# Altium footprint library station_de_charge_PcbLib.PcbLib: 26 footprints (part 1 of 2)
Each footprint in its own frame and in the unit in brackets; x right, y up, seen from the top. Pads: shape width x height; smd on the part's side, far side on the other; paste and mask are expansions set on the pad; w line width, h text height; cw(c..) or ccw(c..) is an arc to the next point about the centre after c.
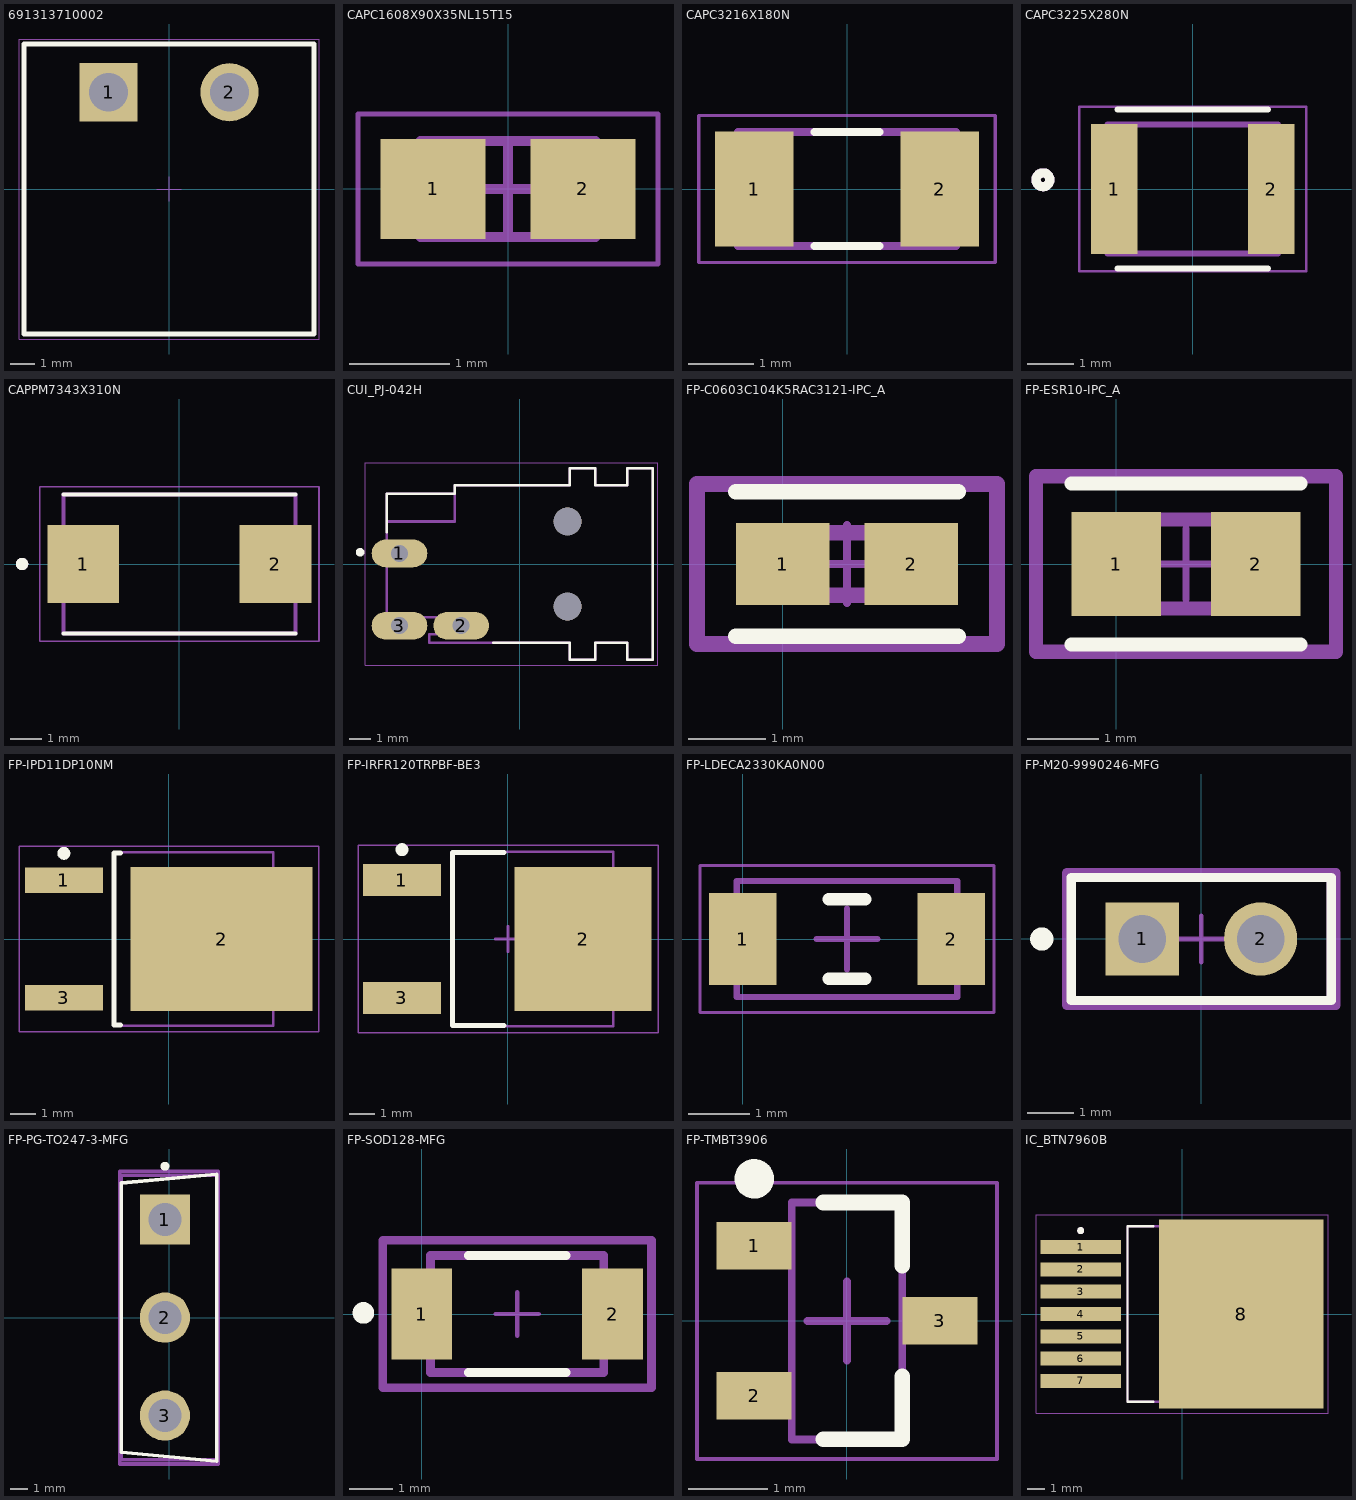
[diagram p0: the footprints below, top view; thin cyan lines are the x and y axes]

## 691313710002 [mm] "5.00mm - Closed Horizhontal PCB Header - -02p"
height 8.5
pads (2):
  rect 2.4x2.4 hole 1.6: 1(-2.5,4)
  round 2.4 hole 1.6: 2(2.5,4)
Top Overlay:
  lines w0.2: -6,-6 -6,6 6,6 6,-6 -6,-6
Mechanical 13:
  lines w0.1: -6,-6 6,-6 6,6 -6,6 -6,-6
Mechanical 15:
  lines w0.05: -0.5,0 0.5,0 ; 0,-0.5 0,0.5 ; -6.2,-6.2 6.2,-6.2 6.2,6.2 -6.2,6.2 -6.2,-6.2
3D body "691313710002.stp": height 8.55, standoff -3.45, extent -6,-6 6,6

## CAPC1608X90X35NL15T15 [mm] "Chip Capacitor, 2-Leads, Body 1.60x0.81mm, IPC Medium Density"
height 0.9
pads (2):
  rect 1.05x1 smd: 1(-0.75,0) 2(0.75,0)
Mechanical 13:
  lines w0.1: -0.875,-0.48 0.875,-0.48 0.875,0.48 -0.875,0.48 -0.875,-0.48
Mechanical 15:
  lines w0.05: -1.5,-0.75 1.5,-0.75 1.5,0.75 -1.5,0.75 -1.5,-0.75
  lines w0.1: -0.48,0 0.48,0 ; 0,-0.48 0,0.48
3D body: height 0.9, standoff 0, extent 0.525,-0.48 0.875,0.48
3D body: height 0.9, standoff 0, extent -0.875,-0.48 -0.525,0.48
3D body: height 0.9, standoff 0, extent -0.525,-0.48 0.525,0.48

## CAPC3216X180N [mm]
pads (2):
  rect 1.21x1.77 smd: 1(-1.428,0) 2(1.428,0)
Top Overlay:
  lines w0.127: -0.5,-0.88 0.5,-0.88 ; -0.5,0.88 0.5,0.88
Mechanical 13:
  lines w0.127: -1.68,-0.88 -1.68,0.88 1.68,0.88 1.68,-0.88 -1.68,-0.88
Mechanical 15:
  lines w0.05: -2.285,-1.135 -2.285,1.135 2.285,1.135 2.285,-1.135 -2.285,-1.135
3D body "EMK316BJ226KL-T.STEP": height 1.61, standoff 0.01, extent -1.6,-0.9 1.6,0.9

## CAPC3225X280N [mm]
pads (2):
  rect 1.01x2.81 smd: 1(-1.7,0) 2(1.7,0)
Top Overlay:
  circle w0.2: c-3.25,0.2 r0.15
  lines w0.127: -1.63,-1.72 1.63,-1.72 ; -1.63,1.72 1.63,1.72
Mechanical 13:
  circle w0.2: c-3.25,0.2 r0.15
  lines w0.127: -1.85,-1.4 1.85,-1.4 1.85,1.4 -1.85,1.4 -1.85,-1.4
Mechanical 15:
  lines w0.05: -2.46,-1.784 -2.46,1.784 2.46,1.784 2.46,-1.784 -2.46,-1.784
3D body "C3225X7R1H106M250AC.STEP": height 2.81, standoff 0.01, extent -1.6,-1.25 1.6,1.25

## CAPPM7343X310N [mm]
pads (2):
  rect 2.31x2.52 smd: 1(-3.1,0) 2(3.1,0)
Top Overlay:
  circle w0.2: c-5.08,0 r0.1
  lines w0.127: -3.75,-2.25 3.75,-2.25 ; -3.75,2.25 3.75,2.25
Mechanical 13:
  circle w0.2: c-5.08,0 r0.1
  lines w0.127: -3.75,-2.25 -3.75,2.25 3.75,2.25 3.75,-2.25 -3.75,-2.25
Mechanical 15:
  lines w0.05: -4.505,-2.5 -4.505,2.5 4.505,2.5 4.505,-2.5 -4.505,-2.5
3D body "TCJD226M035R0100.STEP": height 3.11, standoff 0.01, extent -3.65,-2.15 3.65,2.15

## CUI_PJ-042H [mm]
pads (5):
  oval 2.616x1.308 hole 0.8 square: 1(-5.65,0.5) 2(-2.75,-2.9) 3(-5.65,-2.9)
  round 1.3 hole 1.3 unplated: ""(2.25,-2) ""(2.25,2)
Top Overlay:
  circle w0.2: c-7.5,0.55 r0.1
  lines w0.127: -6.25,1.5 -6.25,3.3 -3.05,3.3 -3.05,3.7 2.35,3.7 2.35,4.5 3.55,4.5 3.55,3.7 5.05,3.7 5.05,4.5 6.25,4.5 6.25,-4.5 5.05,-4.5 5.05,-3.7 3.55,-3.7 3.55,-4.5 2.35,-4.5 2.35,-3.7 -1.25,-3.7
Mechanical 13:
  lines w0.127: -6.25,2 -3.05,2 -3.05,3.3 ; -6.25,2 -6.25,3.3 -3.05,3.3 ; -6.25,2 -6.25,-2.5 -1.95,-2.5 -1.95,-3.3 -4.25,-3.3 -4.25,-3.7 2.35,-3.7 2.35,-4.5 3.55,-4.5 3.55,-3.7 5.05,-3.7 5.05,-4.5 6.25,-4.5 6.25,4.5 5.05,4.5 5.05,3.7 3.55,3.7 3.55,4.5 2.35,4.5 2.35,3.7 -3.05,3.7 -3.05,3.3
Mechanical 15:
  lines w0.05: -7.25,-4.75 -7.25,4.75 6.5,4.75 6.5,-4.75 -7.25,-4.75
3D body "CUI_DEVICES_PJ-042H.step": height 6.01, standoff -2.49, extent -6.2,-4.5 6.3,4.5

## FP-C0603C104K5RAC3121-IPC_A [mil]
pads (2):
  rect 47.5x41.66 smd paste+0 mask+0: 1(0,0) 2(65.03,0)
Top Overlay:
  lines w7.87: -23.75,-36.58 88.78,-36.58 ; -23.75,36.58 88.78,36.58
Mechanical 5:
  lines w7.87: -43.44,-40.52 -43.44,40.52 108.46,40.52 108.46,-40.52 -43.44,-40.52
  text ".Designator" at 32.51,7.39 h39.37
Mechanical 13:
  lines w7.87: 1.02,-15.75 1.02,15.75 64.01,15.75 64.01,-15.75 1.02,-15.75
Mechanical 15:
  lines w7.87: -43.44,-40.52 -43.44,40.52 108.46,40.52 108.46,-40.52 -43.44,-40.52
Mechanical 16:
  lines w3.94: 12.83,0 52.2,0 ; 32.51,-19.68 32.51,19.68
3D body "Cap_KEMET_C0603C104K5RAC3121_eec.STEP": height 10, standoff 0, extent -43.44,-40.52 108.46,40.52

## FP-ESR10-IPC_A [mm]
pads (2):
  rect 1.258x1.462 smd paste+0 mask+0: 1(0,0) 2(1.954,0)
Top Overlay:
  lines w0.2: -0.629,-1.131 2.583,-1.131 ; -0.629,1.131 2.583,1.131
Mechanical 5:
  lines w0.2: -1.129,-1.231 -1.129,1.231 3.083,1.231 3.083,-1.231 -1.129,-1.231
  text ".Designator" at 0.977,0.188 h1
Mechanical 13:
  lines w0.2: -0.023,-0.625 -0.023,0.625 1.977,0.625 1.977,-0.625 -0.023,-0.625
Mechanical 15:
  lines w0.2: -1.129,-1.231 -1.129,1.231 3.083,1.231 3.083,-1.231 -1.129,-1.231
Mechanical 16:
  lines w0.1: 0.477,0 1.477,0 ; 0.977,-0.5 0.977,0.5
3D body "Res_Rohm_ESR10EZPF49R9_eec.STEP": height 0.25, standoff 0, extent -1.129,-1.231 3.083,1.231

## FP-IPD11DP10NM [mm] "D-PAK, 3-Pads, Body 6,21x6,73mm (max), IPC Medium Density"
height 2.41
pads (3):
  rect 3.05x1 smd: 1(-4.1,2.29) 3(-4.1,-2.29)
  rect 7.1x5.6 smd: 2(2.05,0)
Top Overlay:
  circle w0.25: c-4.1,3.34 r0.125
  lines w0.2: -1.9,-3.35 -2.15,-3.35 -2.15,3.35 -1.9,3.35
Top Assembly:
  lines w0.1: -2.15,-3.375 -2.15,3.375 4.07,3.375 4.07,-3.375 -2.15,-3.375
Mechanical 15:
  lines w0.05: -5.85,-3.625 -5.85,3.625 5.85,3.625 5.85,-3.625 -5.85,-3.625
  lines w0.1: -0.5,0 0.5,0 ; 0,-0.5 0,0.5
3D body: height 2.41, standoff 0, extent -2.15,-3.375 4.07,3.375

## FP-IRFR120TRPBF-BE3 [mm] "D-PAK, 3-Pads, Body 6,21x6,73mm (max), IPC Medium Density"
height 2.38
pads (3):
  rect 3x1.25 smd: 1(-4.1,2.28) 3(-4.1,-2.28)
  rect 5.3x5.55 smd: 2(2.9,0)
Top Overlay:
  circle w0.25: c-4.1,3.455 r0.125
  lines w0.2: -0.15,-3.35 -2.15,-3.35 -2.15,3.35 -0.15,3.35
Mechanical 13:
  lines w0.1: -2.15,-3.375 4.07,-3.375 4.07,3.375 -2.15,3.375 -2.15,-3.375
Mechanical 15:
  lines w0.05: -5.8,-3.625 5.8,-3.625 5.8,3.625 -5.8,3.625 -5.8,-3.625
  lines w0.1: -0.5,0 0.5,0 ; 0,-0.5 0,0.5
3D body: height 2.38, standoff 0, extent -2.15,-3.375 4.07,3.375

## FP-LDECA2330KA0N00 [mm] "Chip Capacitor, 2-Leads, Body 3,40x1,70mm, IPC Medium Density"
height 1.2
pads (2):
  rect 1.1x1.5 smd: 1(0,0) 2(3.4,0)
Top Overlay:
  lines w0.2: 1.4,-0.65 2,-0.65 ; 1.4,0.65 2,0.65
Mechanical 13:
  lines w0.1: -0.1,-0.95 3.5,-0.95 3.5,0.95 -0.1,0.95 -0.1,-0.95
Mechanical 15:
  lines w0.05: -0.7,-1.2 4.1,-1.2 4.1,1.2 -0.7,1.2 -0.7,-1.2
  lines w0.1: 1.2,0 2.2,0 ; 1.7,-0.5 1.7,0.5
3D body: height 1.2, standoff 0, extent 3,-0.95 3.5,0.95
3D body: height 1.2, standoff 0, extent -0.1,-0.95 0.4,0.95
3D body: height 1.2, standoff 0, extent 0.4,-0.95 3,0.95

## FP-M20-9990246-MFG [mm]
pads (2):
  rect 1.57x1.57 hole 1.02 paste-1000 mask+0: 1(-1.27,0)
  round 1.57 hole 1.02 paste-1000 mask+0: 2(1.27,0)
Top Overlay:
  circle w0.25: c-3.425,0 r0.125
  lines w0.2: -2.79,-1.32 2.79,-1.32 2.79,1.32 -2.79,1.32 -2.79,-1.32
Mechanical 5:
  lines w0.2: -2.89,-1.42 2.89,-1.42 2.89,1.42 -2.89,1.42 -2.89,-1.42
  text ".Designator" at 0,0.188 h1
Mechanical 13:
  lines w0.2: -2.79,-1.32 2.79,-1.32 2.79,1.32 -2.79,1.32 -2.79,-1.32
Mechanical 15:
  lines w0.2: -2.89,-1.42 2.89,-1.42 2.89,1.42 -2.89,1.42 -2.89,-1.42
Mechanical 16:
  lines w0.1: -0.5,0 0.5,0 ; 0,-0.5 0,0.5
3D body "Conn_Harwin_M20-9990246_eec.STEP": height 0.25, standoff 0, extent -2.89,-1.42 2.89,1.42

## FP-PG-TO247-3-MFG [mm]
pads (3):
  rect 2.8x2.8 hole 1.85 paste-1000 mask+0: 1(-0.228,5.46)
  round 2.8 hole 1.85 paste-1000 mask+0: 2(-0.228,0) 3(-0.228,-5.46)
Top Overlay:
  circle w0.25: c-0.228,8.435 r0.125
  lines w0.2: 2.655,-8 -2.655,-7.5 -2.655,7.5 2.655,8 ; 2.655,-7.935 2.655,7.935
Mechanical 5:
  lines w0.2: -2.755,-8.162 -2.755,8.162 2.755,8.162 2.755,-8.162 -2.755,-8.162
  text ".Designator" at 0,-0.001 h1
Mechanical 13:
  lines w0.2: -2.655,-7.935 -2.655,7.935 2.655,7.935 2.655,-7.935 -2.655,-7.935
Mechanical 15:
  lines w0.2: -2.755,-8.162 -2.755,8.162 2.755,8.162 2.755,-8.162 -2.755,-8.162
Mechanical 16:
  lines w0.1: -0.5,0 0.5,0 ; 0,-0.5 0,0.5
3D body "Trans_Infineon_IRFP250NPBF_eec.STEP": height 0.25, standoff 0, extent -2.755,-8.162 2.755,8.162

## FP-SOD128-MFG [mm]
pads (2):
  rect 1.4x2.1 smd paste-1000 mask+0: 1(0,0) 2(4.4,0)
Top Overlay:
  circle w0.25: c-1.35,0.025 r0.125
  lines w0.2: 1.075,-1.35 3.325,-1.35 ; 1.075,1.35 3.325,1.35
Top Paste:
  rectangle: 3.8,-0.95 5,0.95
  rectangle: -0.6,-0.95 0.6,0.95
Mechanical 5:
  lines w0.2: -0.9,-1.7 -0.9,1.7 5.3,1.7 5.3,-1.7 -0.9,-1.7
  text ".Designator" at 2.2,0.188 h1
Mechanical 13:
  lines w0.2: 0.2,-1.35 0.2,1.35 4.2,1.35 4.2,-1.35 0.2,-1.35
Mechanical 15:
  lines w0.2: -0.9,-1.7 -0.9,1.7 5.3,1.7 5.3,-1.7 -0.9,-1.7
Mechanical 16:
  lines w0.1: 1.7,0 2.7,0 ; 2.2,-0.5 2.2,0.5
3D body "Diode_Nexperia_PMEG40T50EPX_eec.STEP": height 0.25, standoff 0, extent -0.9,-1.7 5.3,1.7

## FP-TMBT3906 [mm] "SOT23, 3-Leads, Body 2,90x2,40mm, Pitch 0,95mm, IPC Medium Density"
height 1
pads (3):
  rect 0.95x0.6 smd: 1(-1.175,0.95) 2(-1.175,-0.95) 3(1.175,0)
Top Overlay:
  circle w0.25: c-1.175,1.8 r0.125
  lines w0.2: -0.3,-1.5 0.7,-1.5 0.7,-0.7 ; -0.3,1.5 0.7,1.5 0.7,0.7
Top Assembly:
  lines w0.1: -0.7,-1.5 -0.7,1.5 0.7,1.5 0.7,-1.5 -0.7,-1.5
Mechanical 15:
  lines w0.05: -1.9,-1.75 -1.9,1.75 1.9,1.75 1.9,-1.75 -1.9,-1.75
  lines w0.1: -0.5,0 0.5,0 ; 0,-0.5 0,0.5
3D body: height 1, standoff 0, extent -0.7,-1.5 0.7,1.5

## IC_BTN7960B [mm]
pads (8):
  rect 4.6x0.8 smd: 1(-5.775,3.81) 2(-5.775,2.54) 3(-5.775,1.27) 4(-5.775,0) 5(-5.775,-1.27) 6(-5.775,-2.54) 7(-5.775,-3.81)
  rect 9.4x10.8 smd paste-6: 8(3.375,0)
Top Overlay:
  circle w0.2: c-5.775,4.75 r0.1
  lines w0.127: -1.639,-5 -3.105,-5 -3.105,5 -1.639,5
Top Paste:
  region: 0.26,-5.155 -1.03,-5.155 -1.03,-3.845 0.26,-3.845
  region: 0.26,-3.355 -1.03,-3.355 -1.03,-2.045 0.26,-2.045
  region: 0.26,-1.555 -1.03,-1.555 -1.03,-0.245 0.26,-0.245
  region: 0.26,3.845 -1.03,3.845 -1.03,5.155 0.26,5.155
  region: 0.26,2.045 -1.03,2.045 -1.03,3.355 0.26,3.355
  region: 0.26,0.245 -1.03,0.245 -1.03,1.555 0.26,1.555
  region: 2.14,-5.155 0.85,-5.155 0.85,-3.845 2.14,-3.845
  region: 2.14,-3.355 0.85,-3.355 0.85,-2.045 2.14,-2.045
  region: 2.14,-1.555 0.85,-1.555 0.85,-0.245 2.14,-0.245
  region: 2.14,3.845 0.85,3.845 0.85,5.155 2.14,5.155
  region: 2.14,2.045 0.85,2.045 0.85,3.355 2.14,3.355
  region: 2.14,0.245 0.85,0.245 0.85,1.555 2.14,1.555
  region: 7.78,-5.155 6.49,-5.155 6.49,-3.845 7.78,-3.845
  region: 7.78,-3.355 6.49,-3.355 6.49,-2.045 7.78,-2.045
  region: 7.78,-1.555 6.49,-1.555 6.49,-0.245 7.78,-0.245
  region: 7.78,3.845 6.49,3.845 6.49,5.155 7.78,5.155
  region: 7.78,2.045 6.49,2.045 6.49,3.355 7.78,3.355
  region: 7.78,0.245 6.49,0.245 6.49,1.555 7.78,1.555
  region: 5.9,-5.155 4.61,-5.155 4.61,-3.845 5.9,-3.845
  region: 5.9,-3.355 4.61,-3.355 4.61,-2.045 5.9,-2.045
  region: 5.9,-1.555 4.61,-1.555 4.61,-0.245 5.9,-0.245
  region: 5.9,3.845 4.61,3.845 4.61,5.155 5.9,5.155
  region: 5.9,2.045 4.61,2.045 4.61,3.355 5.9,3.355
  region: 5.9,0.245 4.61,0.245 4.61,1.555 5.9,1.555
  region: 4.02,-5.155 2.73,-5.155 2.73,-3.845 4.02,-3.845
  region: 4.02,-3.355 2.73,-3.355 2.73,-2.045 4.02,-2.045
  region: 4.02,-1.555 2.73,-1.555 2.73,-0.245 4.02,-0.245
  region: 4.02,3.845 2.73,3.845 2.73,5.155 4.02,5.155
  region: 4.02,2.045 2.73,2.045 2.73,3.355 4.02,3.355
  region: 4.02,0.245 2.73,0.245 2.73,1.555 4.02,1.555
Mechanical 13:
  circle w0.2: c-5.775,4.75 r0.1
  lines w0.127: -3.105,-5 -3.105,5 6.155,5 6.155,-5 -3.105,-5
Mechanical 15:
  lines w0.05: -8.325,-5.65 -8.325,5.65 8.325,5.65 8.325,-5.65 -8.325,-5.65